# Altium footprint library PcbLibDevices.PcbLib: 21 footprints (part 2 of 2)
Each footprint in its own frame and in the unit in brackets; x right, y up, seen from the top. Pads: shape width x height; smd on the part's side, far side on the other; paste and mask are expansions set on the pad; w line width, h text height; cw(c..) or ccw(c..) is an arc to the next point about the centre after c.
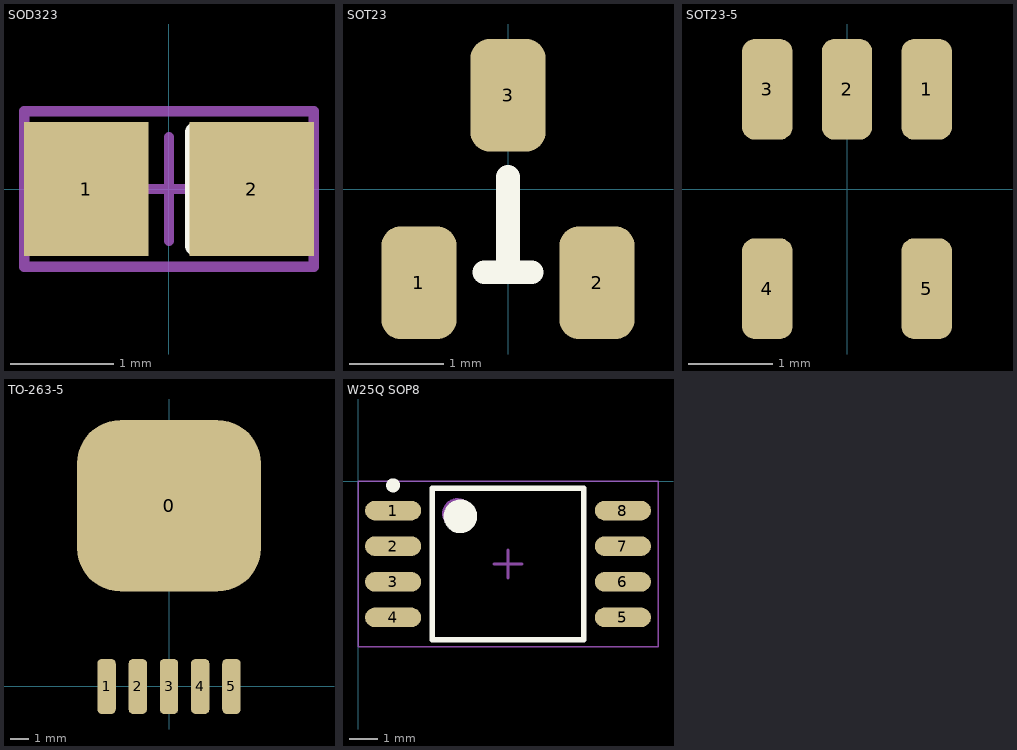
[diagram p1: the footprints below, top view; thin cyan lines are the x and y axes]

## SOD323 [mm]
pads (2):
  rect 1.2x1.3 smd: 1(-0.8,0) 2(0.8,0)
Top Overlay:
  lines w0.2: 0.254,-0.55 0.254,0.55
Mechanical 15:
  lines w0.1: -0.5,0 0.5,0 ; 0,-0.5 0,0.5 ; -1.4,-0.75 1.4,-0.75 1.4,0.75 -1.4,0.75 -1.4,-0.75
3D body "User Library-SOD323.STEP": height 0.95, standoff -0.04, extent -1.27,-0.615 1.23,0.635

## SOT23 [mm]
pads (3):
  rrect50% 0.8x1.2 smd: 1(-0.95,-1) 2(0.95,-1) 3(0,1)
Top Overlay:
  lines w0.254: -0.254,-0.889 0,-0.889 ; 0,0.127 0,-0.889 ; 0.254,-0.889 0,-0.889
3D body "CircuitWorks-SOT-23.step": height 1.1, standoff 0, extent -1.5,-1.377 1.5,1.123

## SOT23-5 [mm]
pads (5):
  rrect50% 0.6x1.2 smd: 1(0.95,1.188) 2(0,1.188) 3(-0.95,1.188) 4(-0.95,-1.188) 5(0.95,-1.188)
3D body: height 1.3, standoff 0, extent -1.524,-0.889 1.524,0.889

## TO-263-5 [mm]
pads (6):
  rrect50% 10x9.32 smd: 0(0,9.84)
  rrect50% 1x3 smd: 1(-3.4,0) 2(-1.7,0) 3(0,0) 4(1.7,0) 5(3.4,0)
3D body "User Library-TO-263-5.STEP": height 4.56, standoff 0, extent -5.08,-0.276 5.08,13.738

## W25Q SOP8 [mm] "SOIC, 8-Leads, Body 5.29x5.30mm, Pitch 1.27mm, IPC Medium Density"
height 2.2
pads (8):
  oval 2x0.7 smd: 1(1.25,-1.045) 2(1.25,-2.315) 3(1.25,-3.585) 4(1.25,-4.855) 5(9.45,-4.855) 6(9.45,-3.585) 7(9.45,-2.315) 8(9.45,-1.045)
Top Overlay:
  circle w0.6: c3.65,-1.25 r0.3
  circle w0.25: c1.25,-0.145 r0.125
  lines w0.2: 2.65,-5.65 8.05,-5.65 8.05,-0.25 2.65,-0.25 2.65,-5.65
Mechanical 13:
  circle w0.1: c3.55,-1.15 r0.5
  lines w0.1: 2.65,-5.65 8.05,-5.65 8.05,-0.25 2.65,-0.25 2.65,-5.65
Mechanical 15:
  lines w0.05: 0,-5.9 10.7,-5.9 10.7,0 0,0 0,-5.9
  lines w0.1: 4.85,-2.95 5.85,-2.95 ; 5.35,-3.45 5.35,-2.45
3D body: height 2.16, standoff 0, extent 2.65,-5.65 8.05,-0.25